# Altium schematic symbol library THT_resistor_sch.SchLib: 1 symbol
Pins are listed as number, name and electrical type; pins without a type are passive.

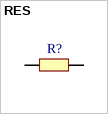
[diagram p0: symbol RES]

## RES
designator R?
Generic resistor symbol
footprint 8x2mm (1/4W THT_resistor_8mm_witdh)
footprint 10x2mm (1/4W THT_resistor_10mm_witdh)
pins: 1, 2